# Altium footprint library BUCKCONVERTER-V1L11.PcbLib: 35 footprints (part 3 of 3)
Each footprint in its own frame and in the unit in brackets; x right, y up, seen from the top. Pads: shape width x height; smd on the part's side, far side on the other; paste and mask are expansions set on the pad; w line width, h text height; cw(c..) or ccw(c..) is an arc to the next point about the centre after c.
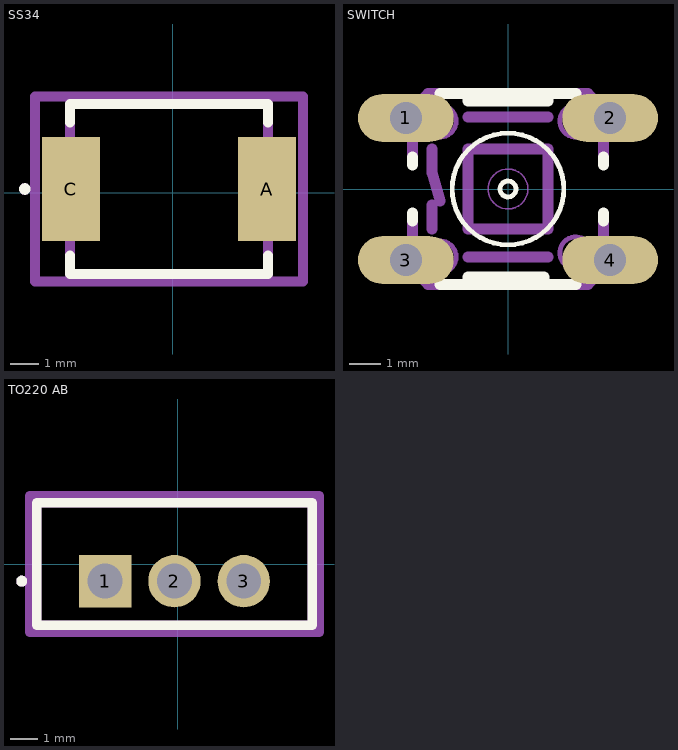
[diagram p2: the footprints below, top view; thin cyan lines are the x and y axes]

## SS34 [mm]
pads (2):
  rect 2x3.6 smd: A(3.273,0.127) C(-3.527,0.127)
Top Overlay:
  circle w0.2: c-5.127,0.127 r0.1
  lines w0.35: -3.564,-2.173 -3.564,-2.823 3.31,-2.823 3.31,-2.173 ; -3.564,2.427 -3.564,3.077 3.31,3.077 3.31,2.427
Mechanical 13:
  circle w0.2: c-5.127,0.127 r0.1
  lines w0.35: -3.564,-2.823 -3.564,3.077 3.31,3.077 3.31,-2.823 -3.564,-2.823
Mechanical 15:
  lines w0.35: -4.777,-3.073 -4.777,3.327 4.523,3.327 4.523,-3.073 -4.777,-3.073
3D body "step_temp.STEP": height 2.65, standoff 0, extent -4.102,-2.823 3.848,3.077

## SWITCH [mil]
pads (4):
  oval 120x60 hole 40: 1(-128,89) 2(128,89) 3(-128,-89) 4(128,-89)
Top Overlay:
  circle w6: c0,0 r70
  circle w6: c0,0 r10
  lines w13.78: -120,-40 -120,-30 ; -120,30 -120,40 ; -85,-120 -50,-120 ; -85,120 -50,120 ; 85,-120 45,-120 ; 85,120 50,120 ; 120,-40 120,-30 ; 120,30 120,40 ; -50,-120 -50,-110 45,-110 45,-120 ; -50,-120 45,-120 ; -50,120 -50,110 50,110 50,120 ; -50,120 50,120
Mechanical 13:
  circle w6: c-85,-85 r20
  circle w6: c85,-80 r20
  circle w6: c85,85 r20
  circle w6: c-85,85 r20
  circle w2: c0,0 r25
  lines w13.78: -120,-40 -120,-100 -100,-120 -85,-120 ; -120,40 -120,100 -100,120 -85,120 ; -95,-50 -95,-20 ; -95,50 -95,20 -85,-15 ; -50,-85 50,-85 ; -50,90 50,90 ; 85,-120 100,-120 120,-100 120,-40 ; 85,120 100,120 120,100 120,40 ; -50,-50 -50,50 50,50 50,-50 -50,-50
  text "1" at -170.13,65.05 h31.5
  text "2" at 140.21,60.09 h31.5
  text "3" at -180.16,-110.1 h31.5
  text "4" at 140.14,-110.11 h31.5
3D body "skhhana010.SLDPRT": height 374.02, standoff -137.8, extent -160.51,-122.05 150.51,122.05

## TO220 AB [mm]
pads (3):
  rect 1.92x1.92 / inner round 1.92 / far side rect 1.92x1.92 hole 1.28: 1(-2.667,-0.63)
  round 1.92 hole 1.28: 2(-0.127,-0.63) 3(2.413,-0.63)
Top Overlay:
  circle w0.2: c-5.727,-0.63 r0.1
  lines w0.35: -5.177,-2.25 -5.177,2.25 4.923,2.25 4.923,-2.25 -5.177,-2.25
Mechanical 13:
  circle w0.2: c-5.727,-0.63 r0.1
  lines w0.35: -5.177,-2.25 -5.177,2.25 4.923,2.25 4.923,-2.25 -5.177,-2.25
Mechanical 15:
  lines w0.35: -5.427,-2.5 -5.427,2.5 5.173,2.5 5.173,-2.5 -5.427,-2.5
3D body "step_temp.STEP": height 18.9, standoff -10, extent -5.282,-2.25 5.028,2.25